# Altium schematic symbol library IRM-05-5.SchLib: 1 symbol
Pins are listed as number, name and electrical type; pins without a type are passive.

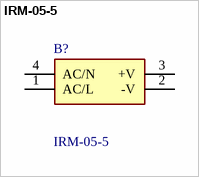
[diagram p0: symbol IRM-05-5]

## IRM-05-5
designator B?
5W Single Output Encapsulated Type; Manufacturer_Name: Mean Well; Geometry.Height: 21.5mm; Manufacturer_Part_Number: IRM-05-5; Mouser Part Number: 709-IRM05-5; Mouser Price/Stock: https://www.mouser.co.uk/ProductDetail/MEAN-WELL/IRM-05-5?qs=WkdRfq4wf1OdYoHS8Am9VA%3D%3D; Arrow Part Number: IRM-05-5; Arrow Price/Stock: https://www.arrow.com/en/products/irm-05-5/mean-well-enterprises?region=europe; Datasheet Link: https://www.mouser.fr/datasheet/2/260/r1936_3-1109422.pdf
footprint IRM055
pins: 1 AC/L, 2 -V, 3 +V, 4 AC/N